# Altium integrated library B4B-PH-K-S_LF__SN_.IntLib: 1 symbol
Pins are listed as number, name and electrical type; pins without a type are passive.

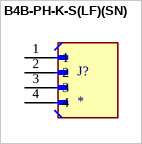
[diagram p0: symbol B4B-PH-K-S(LF)(SN)]

## B4B-PH-K-S(LF)(SN)
designator J?
Connector Header Through Hole 4 position 0.079 (2.00mm); MF: JST; MP: B4B-PH-K-S(LF)(SN); SnapEDA_Link: https://www.snapeda.com/parts/B4B-PH-K-S(LF)(SN)/JST/view-part/?ref=snap; Package: None; Value: *; Check_prices: https://www.snapeda.com/parts/B4B-PH-K-S(LF)(SN)/JST/view-part/?ref=eda
footprint JST_B4B-PH-K-S(LF)(SN)
pins: 1, 2, 3, 4